# EAGLE library part 7SG-A1 (library chuong)
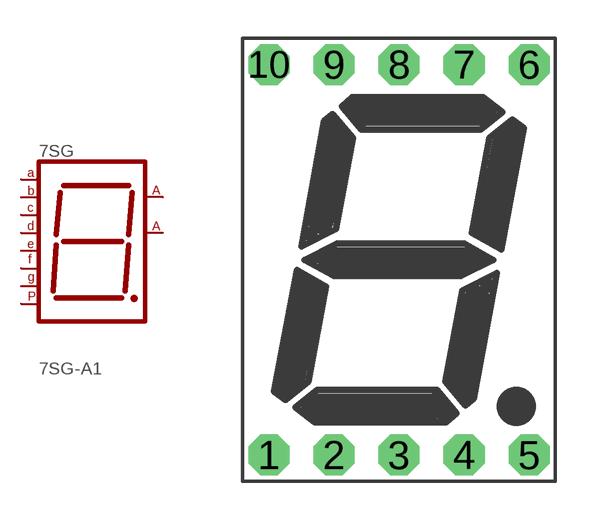
[diagram p42: symbol with the pads of 7SG-A; footprint 7SG-A]

Designator prefix 7SG

## 7SG-A1  [7SG-A]
1  E  pas
2  D  pas
3  CA1  pas
4  C  pas
5  DP  pas
6  B  pas
7  A  pas
8  CA2  pas
9  F  pas
10  G  pas

## Footprint 7SG-A (pad centres in mm)
drill 0.61 pad 1.6 octagon: 1 -5.08,-7.62; 2 -2.54,-7.62; 3 0,-7.62; 4 2.54,-7.62; 5 5.08,-7.62; 6 5.08,7.62; 7 2.54,7.62; 8 0,7.62; 9 -2.54,7.62; 10 -5.08,7.62